# EAGLE library part 615008160521 (library WR-MJ)
WR-MJ Gigabit Ethernet Modular Jacks – THT Characteristics Shieldingless and Shielded with EMI-Spring option Vertical and Horizontal orientations Tray Packaging Properties PoE++ Compatible up to 100W (IEEE 802.3bt) UL and cULus-Certified UL94-V0 reflow-compatible insulator material Ethernet Category 5e to 6A Applications Telecommunications Computing Video Internet of Things Smart Buildings <https://www.we-online.com/components/media/o161613v209%20Family_WR-MJTH_615008160021.jpg> Details see: www.we-online.com/en/components/products/WR_MJ_MODULAR_JACKS_OVER <www.we-online.com/catalog/WR_MJ_MODULAR_JACKS_OVER/?utm_source=eagle_model&utm_medium=description_link&utm_campaign=eisos_eagle> Updated by Yingchun Shan 2020-01-03 2020(C) Würth Elektronik
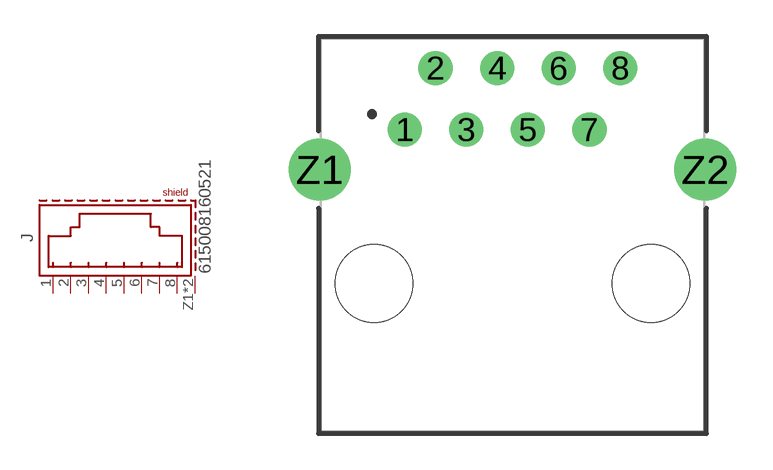
[diagram p50: symbol with the pads of 615008160521; footprint 615008160521]

Designator prefix J

## 615008160521 (APPLICATION-SYSTEM: CAT 6a; DATASHEET-URL: https://www.we-online.com/redexpert/spec/615008160521?ae; EMI: Yes; LED: /; MOUNT: THT; PART-NUMBER: 615008160521; SIZE: Vertical; VALUE: 615008160521; XPXC: 8P8C)  [615008160521]
1  8  pas
2  7  pas
3  6  pas
4  5  pas
5  4  pas
6  3  pas
7  2  pas
8  1  pas
Z1  SHIELD  pas
Z2  SHIELD  pas

## Footprint 615008160521 (pad centres in mm)
WR-MJ Modular Jack THT Vertical Shielded EMI 8P8C
drill 0.9: 1 -4.445,4.35; 2 -3.175,6.89; 3 -1.905,4.35; 4 -0.635,6.89; 5 0.635,4.35; 6 1.905,6.88; 7 3.175,4.35; 8 4.445,6.89
drill 1.7: Z1 -7.95,2.7; Z2 7.95,2.7
hole 3.2 at -5.715,-2.01
hole 3.2 at 5.715,-2.01